# EAGLE library part TSW-D-90 (library con-samtec-tsw)
HEADER
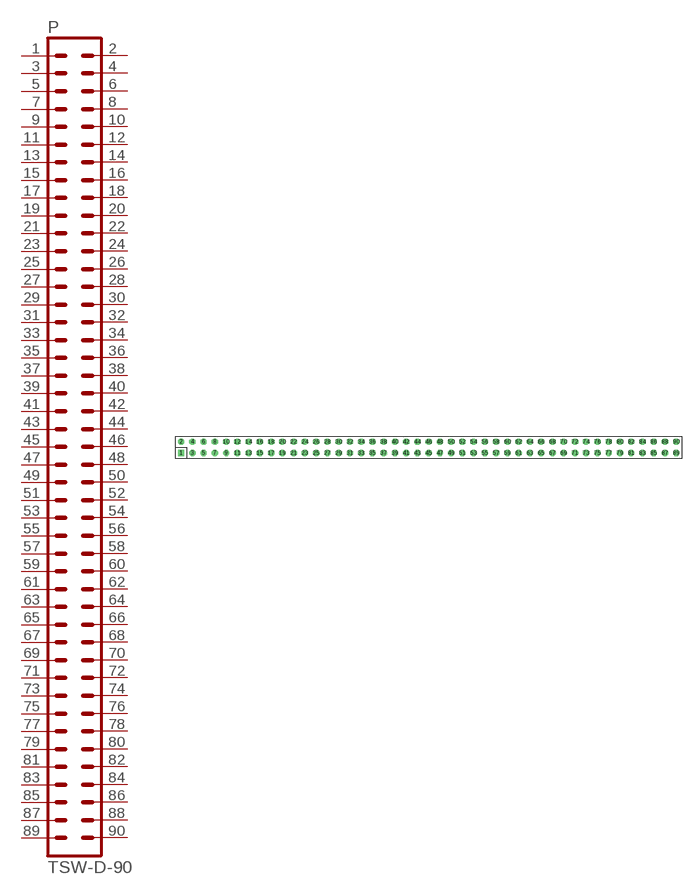
[diagram p132: symbol with the pads of TSW-D-90; footprint TSW-D-90]

Designator prefix P

## TSW-D-90  [TSW-D-90]
1  1  pas
2  2  pas
3  3  pas
4  4  pas
5  5  pas
6  6  pas
7  7  pas
8  8  pas
9  9  pas
10  10  pas
11  11  pas
12  12  pas
13  13  pas
14  14  pas
15  15  pas
16  16  pas
17  17  pas
18  18  pas
19  19  pas
20  20  pas
21  21  pas
22  22  pas
23  23  pas
24  24  pas
25  25  pas
26  26  pas
27  27  pas
28  28  pas
29  29  pas
30  30  pas
31  31  pas
32  32  pas
33  33  pas
34  34  pas
35  35  pas
36  36  pas
37  37  pas
38  38  pas
39  39  pas
40  40  pas
41  41  pas
42  42  pas
43  43  pas
44  44  pas
45  45  pas
46  46  pas
47  47  pas
48  48  pas
49  49  pas
50  50  pas
51  51  pas
52  52  pas
53  53  pas
54  54  pas
55  55  pas
56  56  pas
57  57  pas
58  58  pas
59  59  pas
60  60  pas
61  61  pas
62  62  pas
63  63  pas
64  64  pas
65  65  pas
66  66  pas
67  67  pas
68  68  pas
69  69  pas
70  70  pas
71  71  pas
72  72  pas
73  73  pas
74  74  pas
75  75  pas
76  76  pas
77  77  pas
78  78  pas
79  79  pas
80  80  pas
81  81  pas
82  82  pas
83  83  pas
84  84  pas
85  85  pas
86  86  pas
87  87  pas
88  88  pas
89  89  pas
90  90  pas

## Footprint TSW-D-90 (pad centres in mm)
HEADER
drill 0.914 square: 1 -55.88,-1.27
drill 0.914 octagon: 2 -55.88,1.27; 3 -53.34,-1.27; 4 -53.34,1.27; 5 -50.8,-1.27; 6 -50.8,1.27; 7 -48.26,-1.27; 8 -48.26,1.27; 9 -45.72,-1.27; 10 -45.72,1.27; 11 -43.18,-1.27; 12 -43.18,1.27; 13 -40.64,-1.27; 14 -40.64,1.27; 15 -38.1,-1.27; 16 -38.1,1.27; 17 -35.56,-1.27; 18 -35.56,1.27; 19 -33.02,-1.27; 20 -33.02,1.27; 21 -30.48,-1.27; 22 -30.48,1.27; 23 -27.94,-1.27; 24 -27.94,1.27; 25 -25.4,-1.27; 26 -25.4,1.27; 27 -22.86,-1.27; 28 -22.86,1.27; 29 -20.32,-1.27; 30 -20.32,1.27; 31 -17.78,-1.27; 32 -17.78,1.27; 33 -15.24,-1.27; 34 -15.24,1.27; 35 -12.7,-1.27; 36 -12.7,1.27; 37 -10.16,-1.27; 38 -10.16,1.27; 39 -7.62,-1.27; 40 -7.62,1.27; 41 -5.08,-1.27; 42 -5.08,1.27; 43 -2.54,-1.27; 44 -2.54,1.27; 45 0,-1.27; 46 0,1.27; 47 2.54,-1.27; 48 2.54,1.27; 49 5.08,-1.27; 50 5.08,1.27; 51 7.62,-1.27; 52 7.62,1.27; 53 10.16,-1.27; 54 10.16,1.27; 55 12.7,-1.27; 56 12.7,1.27; 57 15.24,-1.27; 58 15.24,1.27; 59 17.78,-1.27; 60 17.78,1.27; 61 20.32,-1.27; 62 20.32,1.27; 63 22.86,-1.27; 64 22.86,1.27; 65 25.4,-1.27; 66 25.4,1.27; 67 27.94,-1.27; 68 27.94,1.27; 69 30.48,-1.27; 70 30.48,1.27; 71 33.02,-1.27; 72 33.02,1.27; 73 35.56,-1.27; 74 35.56,1.27; 75 38.1,-1.27; 76 38.1,1.27; 77 40.64,-1.27; 78 40.64,1.27; 79 43.18,-1.27; 80 43.18,1.27; 81 45.72,-1.27; 82 45.72,1.27; 83 48.26,-1.27; 84 48.26,1.27; 85 50.8,-1.27; 86 50.8,1.27; 87 53.34,-1.27; 88 53.34,1.27; 89 55.88,-1.27; 90 55.88,1.27